# Altium schematic symbol library Crystals.SchLib: 2 symbols
Pins are listed as number, name and electrical type; pins without a type are passive.

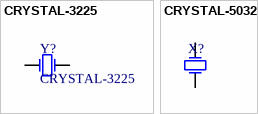
[diagram p0: symbols CRYSTAL-3225 to CRYSTAL-5032]

## CRYSTAL-3225
designator Y?
footprint CRYSTAL-3225
pins: 1 OSC1, 2 OSC3 hidden, 3 OSC2, 4 OSC4 hidden

## CRYSTAL-5032
designator X?  (value not drawn)
footprint CRYSTAL-5032 (Footprint not found)
pins: 1, 2